# Altium footprint library LSP_PcbLib.PcbLib: 22 footprints (part 2 of 2)
Each footprint in its own frame and in the unit in brackets; x right, y up, seen from the top. Pads: shape width x height; smd on the part's side, far side on the other; paste and mask are expansions set on the pad; w line width, h text height; cw(c..) or ccw(c..) is an arc to the next point about the centre after c.
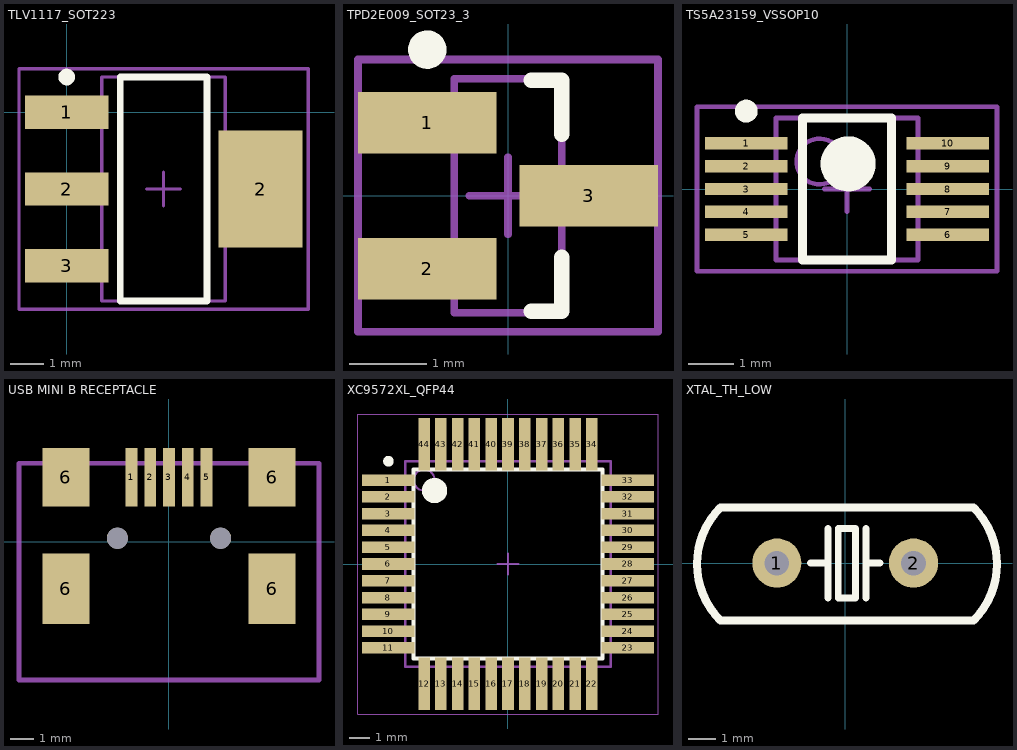
[diagram p1: the footprints below, top view; thin cyan lines are the x and y axes]

## TLV1117_SOT223 [mm] "SOT223, 4-Leads, Body 6,7x7,3mm (max), Pitch 2,30mm, IPC Medium Density"
height 1.8
pads (4):
  rect 2.5x1 smd: 1(0,0) 2(0,-2.3) 3(0,-4.6)
  rect 2.5x3.5 smd: 2(5.8,-2.3)
Top Overlay:
  circle w0.25: c0,1.05 r0.125
  lines w0.2: 1.6,-5.65 1.6,1.05 4.2,1.05 4.2,-5.65 1.6,-5.65
Mechanical 13:
  lines w0.1: 1.05,-5.65 1.05,1.05 4.75,1.05 4.75,-5.65 1.05,-5.65
Mechanical 15:
  lines w0.1: 2.4,-2.3 3.4,-2.3 ; 2.9,-2.8 2.9,-1.8 ; -1.425,-5.9 -1.425,1.3 7.225,1.3 7.225,-5.9 -1.425,-5.9
3D body: height 1.8, standoff 0.02, extent 1.05,-5.65 4.75,1.05

## TPD2E009_SOT23_3 [mm] "SOT23, 3-Leads, Body 3,0x2,6mm (max), Pitch 0,95mm, IPC Medium Density"
height 1.12
pads (3):
  rect 1.8x0.8 smd: 1(-1.05,0.95) 2(-1.05,-0.95) 3(1.05,0)
Top Overlay:
  circle w0.25: c-1.05,1.9 r0.125
  lines w0.2: 0.3,-1.5 0.7,-1.5 0.7,-0.8 ; 0.3,1.5 0.7,1.5 0.7,0.8
Mechanical 13:
  lines w0.1: -0.7,-1.52 0.7,-1.52 0.7,1.52 -0.7,1.52 -0.7,-1.52
Mechanical 15:
  lines w0.1: -0.5,0 0.5,0 ; 0,-0.5 0,0.5 ; -1.95,-1.77 1.95,-1.77 1.95,1.77 -1.95,1.77 -1.95,-1.77
3D body: height 1.12, standoff 0.1, extent -0.7,-1.52 0.7,1.52

## TS5A23159_VSSOP10 [mm] "TSSOP, 10-Leads, Body 3,1x3,1mm (max), Pitch 0,50mm, IPC Medium Density"
height 1.1
pads (10):
  rect 1.8x0.27 smd: 1(-2.2,1) 2(-2.2,0.5) 3(-2.2,0) 4(-2.2,-0.5) 5(-2.2,-1) 6(2.2,-1) 7(2.2,-0.5) 8(2.2,0) 9(2.2,0.5) 10(2.2,1)
Top Overlay:
  circle w0.25: c-2.2,1.7 r0.125
  circle w0.6: c0.025,0.55 r0.3
  lines w0.2: -0.975,-1.55 -0.975,1.55 0.975,1.55 0.975,-1.55 -0.975,-1.55
Mechanical 13:
  circle w0.1: c-0.6,0.6 r0.5
  lines w0.1: -1.55,-1.55 -1.55,1.55 1.55,1.55 1.55,-1.55 -1.55,-1.55
Mechanical 15:
  lines w0.1: -0.5,0 0.5,0 ; 0,-0.5 0,0.5 ; -3.275,-1.8 -3.275,1.8 3.275,1.8 3.275,-1.8 -3.275,-1.8
3D body: height 1.1, standoff 0.1, extent -1.55,-1.55 1.55,1.55

## USB MINI B RECEPTACLE [mm] "popravek"
pads (11):
  rect 0.5x2.5 smd: 1(-1.6,2.75) 2(-0.8,2.75) 3(0,2.75) 4(0.8,2.75) 5(1.6,2.75)
  rect 2x3 smd: 6(-4.4,-2) 6(4.4,-2)
  rect 2x2.5 smd: 6(-4.4,2.75) 6(4.4,2.75)
  round 0.9 hole 0.9: ""(-2.2,0.15) ""(2.2,0.15)
Mechanical 15:
  lines w0.2: -6.4,-5.9 6.4,-5.9 6.4,3.35 -6.4,3.35 -6.4,-5.9
3D body: height 4, standoff -0.95, extent -4.95,-5.75 4.95,3.25

## XC9572XL_QFP44 [mm] "QFP, 44-Leads, Body 9,80x9,80mm, Pitch 0,80mm, IPC Medium Density"
height 2.45
pads (44):
  rect 2.5x0.55 smd: 1(-5.7,4) 2(-5.7,3.2) 3(-5.7,2.4) 4(-5.7,1.6) 5(-5.7,0.8) 6(-5.7,0) 7(-5.7,-0.8) 8(-5.7,-1.6) 9(-5.7,-2.4) 10(-5.7,-3.2) 11(-5.7,-4) 23(5.7,-4) 24(5.7,-3.2) 25(5.7,-2.4) 26(5.7,-1.6) 27(5.7,-0.8) 28(5.7,0) 29(5.7,0.8) 30(5.7,1.6) 31(5.7,2.4) 32(5.7,3.2) 33(5.7,4)
  rect 0.55x2.5 smd: 12(-4,-5.7) 13(-3.2,-5.7) 14(-2.4,-5.7) 15(-1.6,-5.7) 16(-0.8,-5.7) 17(0,-5.7) 18(0.8,-5.7) 19(1.6,-5.7) 20(2.4,-5.7) 21(3.2,-5.7) 22(4,-5.7) 34(4,5.7) 35(3.2,5.7) 36(2.4,5.7) 37(1.6,5.7) 38(0.8,5.7) 39(0,5.7) 40(-0.8,5.7) 41(-1.6,5.7) 42(-2.4,5.7) 43(-3.2,5.7) 44(-4,5.7)
Top Overlay:
  circle w0.6: c-3.5,3.5 r0.3
  circle w0.25: c-5.7,4.9 r0.125
  lines w0.2: -4.5,-4.5 4.5,-4.5 4.5,4.5 -4.5,4.5 -4.5,-4.5
Mechanical 13:
  circle w0.1: c-4,4 r0.5
  lines w0.1: -4.9,-4.9 4.9,-4.9 4.9,4.9 -4.9,4.9 -4.9,-4.9
Mechanical 15:
  lines w0.05: -7.15,-7.15 7.15,-7.15 7.15,7.15 -7.15,7.15 -7.15,-7.15
  lines w0.1: -0.5,0 0.5,0 ; 0,-0.5 0,0.5
3D body: height 2.45, standoff 0.25, extent -4.9,-4.9 4.9,4.9

## XTAL_TH_LOW [mm] "XTAL TH low profile"
height 3.5
pads (2):
  round 1.8 hole 0.9: 1(-2.5,0) 2(2.5,0)
Top Overlay:
  lines w0.254: -1.27,0 -0.635,0 -0.635,1.27 -0.635,-1.27 ; 0.762,-1.27 0.762,1.27 ; 0.762,0 1.27,0 ; -0.254,1.27 0.381,1.27 ; -0.254,1.27 0.381,1.27 ; -0.254,1.27 -0.254,-1.27 0.381,-1.27 0.381,1.27
  lines w0.3: -4.566,-2.1 cw(c-2.5,-0.034) -4.566,2.032 4.699,2.032 cw(c2.633,-0.034) 4.699,-2.1 -4.566,-2.1
3D body: height 3, standoff 1, extent -5.461,-2.159 5.588,2.032